# Altium integrated library 3_connector.IntLib: 1 symbol
Pins are listed as number, name and electrical type; pins without a type are passive.

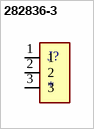
[diagram p0: symbol 282836-3]

## 282836-3
designator J?
Connector, Terminal Block; Wire Receptacle; 3 Pos.; 16-30 AWG; 0.197 in. CL; Sid; MF: TE Connectivity; MP: 282836-3; Package: None; Value: *; Availability: Good; Price: None; SnapEDA_Link: https://www.snapeda.com/parts/282836-3/TE%20Connectivity%20AMP%20Connectors/view-part/134023/?ref=snap; Check_prices: https://www.snapeda.com/parts/282836-3/TE%20Connectivity%20AMP%20Connectors/view-part/134023/?ref=eda; Purchase-URL: https://pricing.snapeda.com/search/part/282836-3/?ref=eda; EU_RoHS_Compliance: Compliant with Exemptions
footprint TE_282836-3
pins: 1, 2, 3